# Altium footprint library Package_DirectFET.PcbLib: 29 footprints (part 1 of 2)
Each footprint in its own frame and in the unit in brackets; x right, y up, seen from the top. Pads: shape width x height; smd on the part's side, far side on the other; paste and mask are expansions set on the pad; w line width, h text height; cw(c..) or ccw(c..) is an arc to the next point about the centre after c.
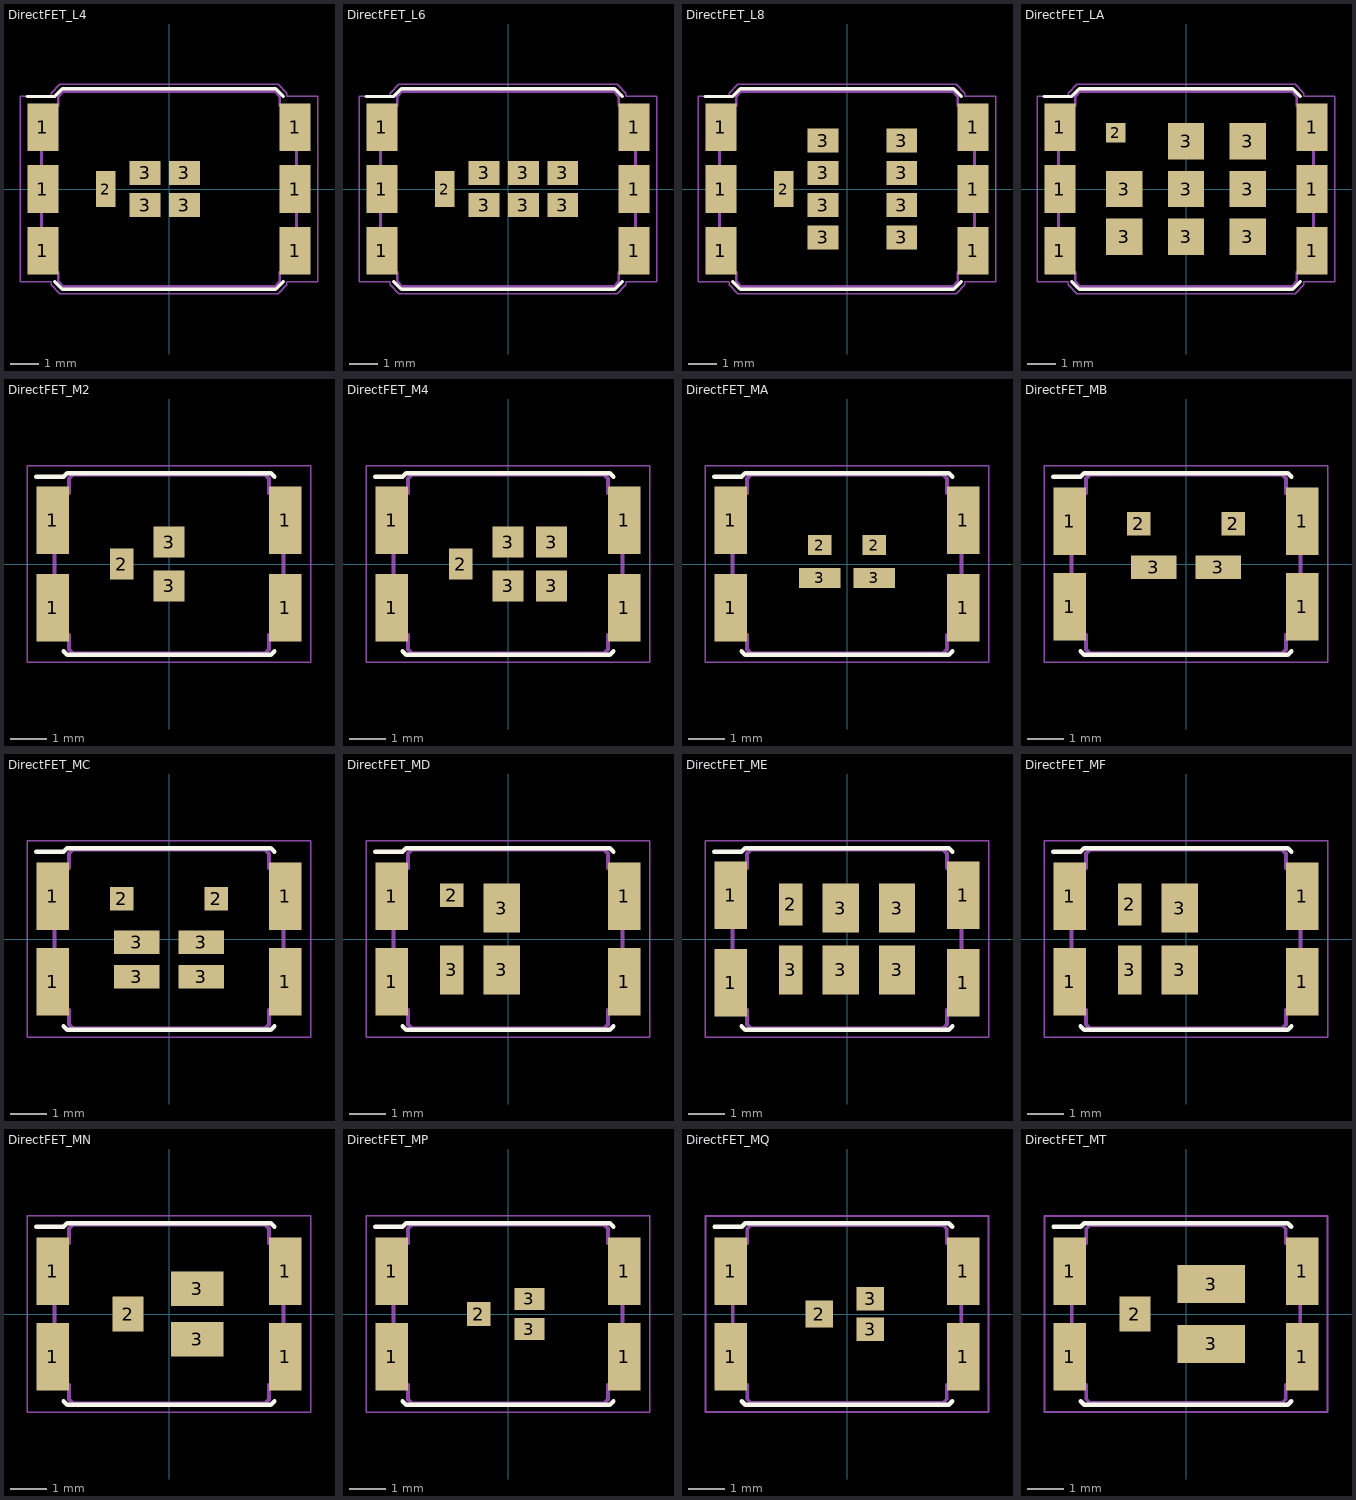
[diagram p0: the footprints below, top view; thin cyan lines are the x and y axes]

## DirectFET_L4 [mm]
pads (11):
  rect 1.1x1.7 smd: 1(-4.5,-2.2) 1(-4.5,0) 1(-4.5,2.2) 1(4.5,-2.2) 1(4.5,0) 1(4.5,2.2)
  rect 0.7x1.3 smd: 2(-2.25,0)
  rect 1.1x0.85 smd: 3(-0.85,-0.575) 3(-0.85,0.575) 3(0.55,-0.575) 3(0.55,0.575)
F.SilkS:
  lines w0.12: -5.05,3.3 -4.075,3.3 -3.8,3.575 3.8,3.575 4.075,3.3 ; -4.075,-3.3 -3.8,-3.575 3.8,-3.575 4.075,-3.3
F.CrtYd:
  lines w0.05: -5.3,-3.3 -4.2,-3.3 -4.2,-3.42 -3.89,-3.73 3.89,-3.73 4.2,-3.42 4.2,-3.3 5.3,-3.3 5.3,3.3 4.2,3.3 4.2,3.42 3.89,3.73 -3.89,3.73 -4.2,3.42 -4.2,3.3 -5.3,3.3 -5.3,-3.3
F.Fab:
  lines w0.1: -4.55,-2.975 -3.95,-2.975 -3.95,-3.3 -3.775,-3.475 3.775,-3.475 3.95,-3.3 3.95,-2.975 4.55,-2.975 4.55,2.975 3.95,2.975 3.95,3.3 3.775,3.475 -3.775,3.475 -3.95,3.3 -3.95,2.975 -4.55,2.975 -4.55,-2.975
  text "'.Designator'" at -4.047,-0.84 h1

## DirectFET_L6 [mm]
pads (13):
  rect 1.1x1.7 smd: 1(-4.5,-2.2) 1(-4.5,0) 1(-4.5,2.2) 1(4.5,-2.2) 1(4.5,0) 1(4.5,2.2)
  rect 0.7x1.3 smd: 2(-2.25,0)
  rect 1.1x0.85 smd: 3(-0.85,-0.575) 3(-0.85,0.575) 3(0.55,-0.575) 3(0.55,0.575) 3(1.95,-0.575) 3(1.95,0.575)
F.SilkS:
  lines w0.12: -5.05,3.3 -4.075,3.3 -3.8,3.575 3.8,3.575 4.075,3.3 ; -4.075,-3.3 -3.8,-3.575 3.8,-3.575 4.075,-3.3
F.CrtYd:
  lines w0.05: -5.3,-3.3 -5.3,3.3 -4.2,3.3 -4.2,3.42 -3.89,3.73 3.89,3.73 4.2,3.42 4.2,3.3 5.3,3.3 5.3,-3.3 4.2,-3.3 4.2,-3.42 3.89,-3.73 -3.89,-3.73 -4.2,-3.42 -4.2,-3.3 -5.3,-3.3
F.Fab:
  lines w0.1: -4.55,-2.975 -3.95,-2.975 -3.95,-3.3 -3.775,-3.475 3.775,-3.475 3.95,-3.3 3.95,-2.975 4.55,-2.975 4.55,2.975 3.95,2.975 3.95,3.3 3.775,3.475 -3.775,3.475 -3.95,3.3 -3.95,2.975 -4.55,2.975 -4.55,-2.975
  text "'.Designator'" at -4.047,-0.84 h1

## DirectFET_L8 [mm]
pads (15):
  rect 1.1x1.7 smd: 1(-4.5,-2.2) 1(-4.5,0) 1(-4.5,2.2) 1(4.5,-2.2) 1(4.5,0) 1(4.5,2.2)
  rect 0.7x1.3 smd: 2(-2.25,0)
  rect 1.1x0.85 smd: 3(-0.85,-1.725) 3(-0.85,-0.575) 3(-0.85,0.575) 3(-0.85,1.725) 3(1.95,-1.725) 3(1.95,-0.575) 3(1.95,0.575) 3(1.95,1.725)
F.SilkS:
  lines w0.12: -5.05,3.3 -4.075,3.3 -3.8,3.575 3.8,3.575 4.075,3.3 ; -4.075,-3.3 -3.8,-3.575 3.8,-3.575 4.075,-3.3
F.CrtYd:
  lines w0.05: -5.3,-3.3 -4.2,-3.3 -4.2,-3.42 -3.89,-3.73 3.89,-3.73 4.2,-3.42 4.2,-3.3 5.3,-3.3 5.3,3.3 4.2,3.3 4.2,3.42 3.89,3.73 -3.89,3.73 -4.2,3.42 -4.2,3.3 -5.3,3.3 -5.3,-3.3
F.Fab:
  lines w0.1: -4.55,-2.975 -3.95,-2.975 -3.95,-3.3 -3.775,-3.475 3.775,-3.475 3.95,-3.3 3.95,-2.975 4.55,-2.975 4.55,2.975 3.95,2.975 3.95,3.3 3.775,3.475 -3.775,3.475 -3.95,3.3 -3.95,2.975 -4.55,2.975 -4.55,-2.975
  text "'.Designator'" at -4.047,-0.84 h1

## DirectFET_LA [mm]
pads (15):
  rect 1.1x1.7 smd: 1(-4.5,-2.2) 1(-4.5,0) 1(-4.5,2.2) 1(4.5,-2.2) 1(4.5,0) 1(4.5,2.2)
  rect 0.7x0.7 smd: 2(-2.5,2)
  rect 1.3x1.3 smd: 3(-2.2,-1.7) 3(-2.2,0) 3(0,-1.7) 3(0,0) 3(0,1.7) 3(2.2,-1.7) 3(2.2,0) 3(2.2,1.7)
F.SilkS:
  lines w0.12: -5.05,3.3 -4.075,3.3 -3.8,3.575 3.8,3.575 4.075,3.3 ; -4.075,-3.3 -3.8,-3.575 3.8,-3.575 4.075,-3.3
F.CrtYd:
  lines w0.05: -5.3,-3.3 -4.2,-3.3 -4.2,-3.42 -3.89,-3.73 3.89,-3.73 4.2,-3.42 4.2,-3.3 5.3,-3.3 5.3,3.3 4.2,3.3 4.2,3.42 3.89,3.73 -3.89,3.73 -4.2,3.42 -4.2,3.3 -5.3,3.3 -5.3,-3.3
F.Fab:
  lines w0.1: -4.55,-2.975 -3.95,-2.975 -3.95,-3.3 -3.775,-3.475 3.775,-3.475 3.95,-3.3 3.95,-2.975 4.55,-2.975 4.55,2.975 3.95,2.975 3.95,3.3 3.775,3.475 -3.775,3.475 -3.95,3.3 -3.95,2.975 -4.55,2.975 -4.55,-2.975
  text "'.Designator'" at -4.047,-0.84 h1

## DirectFET_M2 [mm]
pads (7):
  rect 0.9x1.85 smd: 1(-3.2,-1.2) 1(-3.2,1.2) 1(3.2,-1.2) 1(3.2,1.2)
  rect 0.65x0.85 smd: 2(-1.3,0)
  rect 0.85x0.85 smd: 3(0,-0.6) 3(0,0.6)
F.SilkS:
  lines w0.12: -3.65,2.4 -2.9,2.4 -2.8,2.5 2.8,2.5 2.9,2.4 ; -2.9,-2.4 -2.8,-2.5 2.8,-2.5 2.9,-2.4
F.CrtYd:
  lines w0.05: -3.9,-2.7 3.9,-2.7 3.9,2.7 -3.9,2.7 -3.9,-2.7
F.Fab:
  lines w0.1: -3.15,-1.95 -2.75,-1.95 -2.75,-2.35 -2.65,-2.45 2.65,-2.45 2.75,-2.35 2.75,-1.95 3.15,-1.95 3.15,1.95 2.75,1.95 2.75,2.35 2.65,2.45 -2.65,2.45 -2.75,2.35 -2.75,1.95 -3.15,1.95 -3.15,-1.95
  text "'.Designator'" at -4.047,-0.84 h1

## DirectFET_M4 [mm]
pads (9):
  rect 0.9x1.85 smd: 1(-3.2,-1.2) 1(-3.2,1.2) 1(3.2,-1.2) 1(3.2,1.2)
  rect 0.65x0.85 smd: 2(-1.3,0)
  rect 0.85x0.85 smd: 3(0,-0.6) 3(0,0.6) 3(1.2,-0.6) 3(1.2,0.6)
F.SilkS:
  lines w0.12: -3.65,2.4 -2.9,2.4 -2.8,2.5 2.8,2.5 2.9,2.4 ; -2.9,-2.4 -2.8,-2.5 2.8,-2.5 2.9,-2.4
F.CrtYd:
  lines w0.05: -3.9,-2.7 -3.9,2.7 3.9,2.7 3.9,-2.7 -3.9,-2.7
F.Fab:
  lines w0.1: -3.15,-1.95 -2.75,-1.95 -2.75,-2.35 -2.65,-2.45 2.65,-2.45 2.75,-2.35 2.75,-1.95 3.15,-1.95 3.15,1.95 2.75,1.95 2.75,2.35 2.65,2.45 -2.65,2.45 -2.75,2.35 -2.75,1.95 -3.15,1.95 -3.15,-1.95
  text "'.Designator'" at -4.047,-0.84 h1

## DirectFET_MA [mm]
pads (8):
  rect 0.9x1.85 smd: 1(-3.2,-1.2) 1(-3.2,1.2) 1(3.2,-1.2) 1(3.2,1.2)
  rect 0.65x0.55 smd: 2(-0.75,0.52) 2(0.75,0.52)
  rect 1.15x0.55 smd: 3(-0.75,-0.38) 3(0.75,-0.38)
F.SilkS:
  lines w0.12: -3.65,2.4 -2.9,2.4 -2.8,2.5 2.8,2.5 2.9,2.4 ; -2.9,-2.4 -2.8,-2.5 2.8,-2.5 2.9,-2.4
F.CrtYd:
  lines w0.05: -3.9,-2.7 3.9,-2.7 3.9,2.7 -3.9,2.7 -3.9,-2.7
F.Fab:
  lines w0.1: -3.15,-1.95 -2.75,-1.95 -2.75,-2.35 -2.65,-2.45 2.65,-2.45 2.75,-2.35 2.75,-1.95 3.15,-1.95 3.15,1.95 2.75,1.95 2.75,2.35 2.65,2.45 -2.65,2.45 -2.75,2.35 -2.75,1.95 -3.15,1.95 -3.15,-1.95
  text "'.Designator'" at -4.047,-0.84 h1

## DirectFET_MB [mm]
pads (8):
  rect 0.9x1.85 smd: 1(-3.2,-1.175) 1(-3.2,1.175) 1(3.2,-1.175) 1(3.2,1.175)
  rect 0.65x0.65 smd: 2(-1.3,1.11) 2(1.3,1.11)
  rect 1.25x0.65 smd: 3(-0.89,-0.09) 3(0.89,-0.09)
F.SilkS:
  lines w0.12: -3.65,2.4 -2.9,2.4 -2.8,2.5 2.8,2.5 2.9,2.4 ; -2.9,-2.4 -2.8,-2.5 2.8,-2.5 2.9,-2.4
F.CrtYd:
  lines w0.05: -3.9,-2.7 3.9,-2.7 3.9,2.7 -3.9,2.7 -3.9,-2.7
F.Fab:
  lines w0.1: -3.15,-1.95 -2.75,-1.95 -2.75,-2.35 -2.65,-2.45 2.65,-2.45 2.75,-2.35 2.75,-1.95 3.15,-1.95 3.15,1.95 2.75,1.95 2.75,2.35 2.65,2.45 -2.65,2.45 -2.75,2.35 -2.75,1.95 -3.15,1.95 -3.15,-1.95
  text "'.Designator'" at -4.047,-0.84 h1

## DirectFET_MC [mm]
pads (10):
  rect 0.9x1.85 smd: 1(-3.2,-1.175) 1(-3.2,1.175) 1(3.2,-1.175) 1(3.2,1.175)
  rect 0.65x0.65 smd: 2(-1.3,1.11) 2(1.3,1.11)
  rect 1.25x0.65 smd: 3(-0.89,-1.04) 3(-0.89,-0.09) 3(0.89,-1.04) 3(0.89,-0.09)
F.SilkS:
  lines w0.12: -3.65,2.4 -2.9,2.4 -2.8,2.5 2.8,2.5 2.9,2.4 ; -2.9,-2.4 -2.8,-2.5 2.8,-2.5 2.9,-2.4
F.CrtYd:
  lines w0.05: -3.9,-2.7 -3.9,2.7 3.9,2.7 3.9,-2.7 -3.9,-2.7
F.Fab:
  lines w0.1: -3.15,-1.95 -3.15,1.95 -2.75,1.95 -2.75,2.35 -2.65,2.45 2.65,2.45 2.75,2.35 2.75,1.95 3.15,1.95 3.15,-1.95 2.75,-1.95 2.75,-2.35 2.65,-2.45 -2.65,-2.45 -2.75,-2.35 -2.75,-1.95 -3.15,-1.95
  text "'.Designator'" at -4.047,-0.84 h1

## DirectFET_MD [mm]
pads (8):
  rect 0.9x1.85 smd: 1(-3.2,-1.175) 1(-3.2,1.175) 1(3.2,-1.175) 1(3.2,1.175)
  rect 0.65x0.65 smd: 2(-1.55,1.2)
  rect 0.65x1.35 smd: 3(-1.55,-0.85)
  rect 1x1.35 smd: 3(-0.175,-0.85) 3(-0.175,0.85)
F.SilkS:
  lines w0.12: -3.65,2.4 -2.9,2.4 -2.8,2.5 2.8,2.5 2.9,2.4 ; -2.9,-2.4 -2.8,-2.5 2.8,-2.5 2.9,-2.4
F.CrtYd:
  lines w0.05: -3.9,-2.7 3.9,-2.7 3.9,2.7 -3.9,2.7 -3.9,-2.7
F.Fab:
  lines w0.1: -3.15,-1.95 -2.75,-1.95 -2.75,-2.35 -2.65,-2.45 2.65,-2.45 2.75,-2.35 2.75,-1.95 3.15,-1.95 3.15,1.95 2.75,1.95 2.75,2.35 2.65,2.45 -2.65,2.45 -2.75,2.35 -2.75,1.95 -3.15,1.95 -3.15,-1.95
  text "'.Designator'" at -4.047,-0.84 h1

## DirectFET_ME [mm]
pads (10):
  rect 0.9x1.85 smd: 1(-3.2,-1.2) 1(-3.2,1.2) 1(3.2,-1.2) 1(3.2,1.2)
  rect 0.65x1.151 smd: 2(-1.55,0.95)
  rect 0.65x1.35 smd: 3(-1.55,-0.85)
  rect 1x1.35 smd: 3(-0.175,-0.85) 3(-0.175,0.85) 3(1.375,-0.85) 3(1.375,0.85)
F.SilkS:
  lines w0.12: -3.65,2.4 -2.9,2.4 -2.8,2.5 2.8,2.5 2.9,2.4 ; -2.9,-2.4 -2.8,-2.5 2.8,-2.5 2.9,-2.4
F.CrtYd:
  lines w0.05: -3.9,-2.7 -3.9,2.7 3.9,2.7 3.9,-2.7 -3.9,-2.7
F.Fab:
  lines w0.1: -3.15,-1.95 -3.15,1.95 -2.75,1.95 -2.75,2.35 -2.65,2.45 2.65,2.45 2.75,2.35 2.75,1.95 3.15,1.95 3.15,-1.95 2.75,-1.95 2.75,-2.35 2.65,-2.45 -2.65,-2.45 -2.75,-2.35 -2.75,-1.95 -3.15,-1.95
  text "'.Designator'" at -4.047,-0.84 h1

## DirectFET_MF [mm]
pads (8):
  rect 0.9x1.85 smd: 1(-3.2,-1.175) 1(-3.2,1.175) 1(3.2,-1.175) 1(3.2,1.175)
  rect 0.65x1.15 smd: 2(-1.55,0.95)
  rect 0.65x1.35 smd: 3(-1.55,-0.85)
  rect 1x1.35 smd: 3(-0.175,-0.85) 3(-0.175,0.85)
F.SilkS:
  lines w0.12: -3.65,2.4 -2.9,2.4 -2.8,2.5 2.8,2.5 2.9,2.4 ; -2.9,-2.4 -2.8,-2.5 2.8,-2.5 2.9,-2.4
F.CrtYd:
  lines w0.05: -3.9,-2.7 -3.9,2.7 3.9,2.7 3.9,-2.7 -3.9,-2.7
F.Fab:
  lines w0.1: -3.15,-1.95 -2.75,-1.95 -2.75,-2.35 -2.65,-2.45 2.65,-2.45 2.75,-2.35 2.75,-1.95 3.15,-1.95 3.15,1.95 2.75,1.95 2.75,2.35 2.65,2.45 -2.65,2.45 -2.75,2.35 -2.75,1.95 -3.15,1.95 -3.15,-1.95
  text "'.Designator'" at -4.047,-0.84 h1

## DirectFET_MN [mm]
pads (7):
  rect 0.9x1.85 smd: 1(-3.2,-1.175) 1(-3.2,1.175) 1(3.2,-1.175) 1(3.2,1.175)
  rect 0.85x0.95 smd: 2(-1.125,0)
  rect 1.45x0.95 smd: 3(0.775,-0.7) 3(0.775,0.7)
F.SilkS:
  lines w0.12: -3.65,2.4 -2.9,2.4 -2.8,2.5 2.8,2.5 2.9,2.4 ; -2.9,-2.4 -2.8,-2.5 2.8,-2.5 2.9,-2.4
F.CrtYd:
  lines w0.05: -3.9,-2.7 -3.9,2.7 3.9,2.7 3.9,-2.7 -3.9,-2.7
F.Fab:
  lines w0.1: -3.15,-1.95 -3.15,1.95 -2.75,1.95 -2.75,2.35 -2.65,2.45 2.65,2.45 2.75,2.35 2.75,1.95 3.15,1.95 3.15,-1.95 2.75,-1.95 2.75,-2.35 2.65,-2.45 -2.65,-2.45 -2.75,-2.35 -2.75,-1.95 -3.15,-1.95
  text "'.Designator'" at -4.047,-0.84 h1

## DirectFET_MP [mm]
pads (7):
  rect 0.9x1.85 smd: 1(-3.2,-1.175) 1(-3.2,1.175) 1(3.2,-1.175) 1(3.2,1.175)
  rect 0.65x0.65 smd: 2(-0.8,0)
  rect 0.825x0.6 smd: 3(0.59,-0.415) 3(0.59,0.415)
F.SilkS:
  lines w0.12: -3.65,2.4 -2.9,2.4 -2.8,2.5 2.8,2.5 2.9,2.4 ; -2.9,-2.4 -2.8,-2.5 2.8,-2.5 2.9,-2.4
F.CrtYd:
  lines w0.05: -3.9,-2.7 -3.9,2.7 3.9,2.7 3.9,-2.7 -3.9,-2.7
F.Fab:
  lines w0.1: -3.15,-1.95 -2.75,-1.95 -2.75,-2.35 -2.65,-2.45 2.65,-2.45 2.75,-2.35 2.75,-1.95 3.15,-1.95 3.15,1.95 2.75,1.95 2.75,2.35 2.65,2.45 -2.65,2.45 -2.75,2.35 -2.75,1.95 -3.15,1.95 -3.15,-1.95
  text "'.Designator'" at -4.047,-0.84 h1

## DirectFET_MQ [mm]
pads (7):
  rect 0.9x1.85 smd: 1(-3.205,-1.175) 1(-3.205,1.175) 1(3.205,-1.175) 1(3.205,1.175)
  rect 0.75x0.75 smd: 2(-0.765,0)
  rect 0.76x0.64 smd: 3(0.645,-0.42) 3(0.645,0.42)
F.SilkS:
  lines w0.12: -3.65,2.4 -2.9,2.4 -2.8,2.5 2.8,2.5 2.9,2.4 ; -2.9,-2.4 -2.8,-2.5 2.8,-2.5 2.9,-2.4
F.CrtYd:
  lines w0.05: -3.9,-2.7 -3.9,2.7 3.9,2.7 3.9,-2.7 -3.9,-2.7
F.Fab:
  lines w0.1: -3.15,-1.95 -3.15,1.95 -2.75,1.95 -2.75,2.35 -2.65,2.45 2.65,2.45 2.75,2.35 2.75,1.95 3.15,1.95 3.15,-1.95 2.75,-1.95 2.75,-2.35 2.65,-2.45 -2.65,-2.45 -2.75,-2.35 -2.75,-1.95 -3.15,-1.95
  text "'.Designator'" at -4.047,-0.84 h1

## DirectFET_MT [mm]
pads (7):
  rect 0.9x1.85 smd: 1(-3.205,-1.175) 1(-3.205,1.175) 1(3.205,-1.175) 1(3.205,1.175)
  rect 0.85x0.95 smd: 2(-1.405,0)
  rect 1.85x1.05 smd: 3(0.695,-0.825) 3(0.695,0.825)
F.SilkS:
  lines w0.12: -3.65,2.4 -2.9,2.4 -2.8,2.5 2.8,2.5 2.9,2.4 ; -2.9,-2.4 -2.8,-2.5 2.8,-2.5 2.9,-2.4
F.CrtYd:
  lines w0.05: -3.9,-2.7 -3.9,2.7 3.9,2.7 3.9,-2.7 -3.9,-2.7
F.Fab:
  lines w0.1: -3.15,-1.95 -3.15,1.95 -2.75,1.95 -2.75,2.35 -2.65,2.45 2.65,2.45 2.75,2.35 2.75,1.95 3.15,1.95 3.15,-1.95 2.75,-1.95 2.75,-2.35 2.65,-2.45 -2.65,-2.45 -2.75,-2.35 -2.75,-1.95 -3.15,-1.95
  text "'.Designator'" at -4.047,-0.84 h1